# Altium footprint library New.PcbLib: 1 footprints
Each footprint in its own frame and in the unit in brackets; x right, y up, seen from the top. Pads: shape width x height; smd on the part's side, far side on the other; paste and mask are expansions set on the pad; w line width, h text height; cw(c..) or ccw(c..) is an arc to the next point about the centre after c.
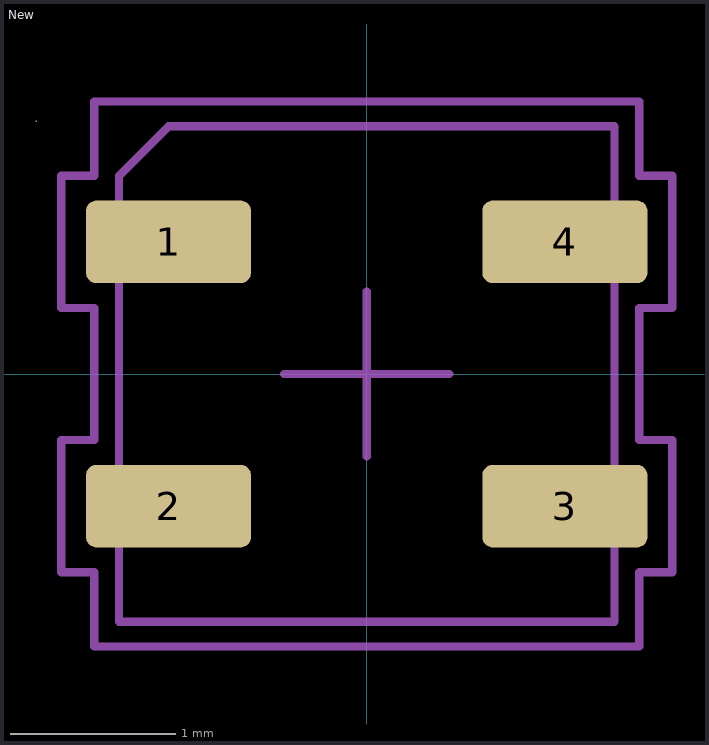
[diagram p0: the footprint, top view; thin cyan lines are the x and y axes]

## New [mm] "New Footprint Template"
pads (4):
  rrect25% 1x0.5 smd paste+0: 1(-1.2,0.8) 2(-1.2,-0.8) 3(1.2,-0.8) 4(1.2,0.8)
Top Overlay:
  text "o" at -2.003,1.525 h0.01
Top Component Outline:
  lines w0.05: -1.5,-1.5 -1.5,1.2 -1.2,1.5 1.5,1.5 1.5,-1.5 -1.5,-1.5
Top Courtyard:
  lines w0.05: -0.5,0 0,0 ; 0,-0.5 0,-0.4 0,0 ; 0,0.5 0,0 ; 0.5,0 0,0 ; -1.85,-1.2 -1.85,-0.4 -1.65,-0.4 -1.65,0.4 -1.85,0.4 -1.85,1.2 -1.65,1.2 -1.65,1.65 1.65,1.65 1.65,1.2 1.85,1.2 1.85,0.4 1.65,0.4 1.65,-0.4 1.85,-0.4 1.85,-1.2 1.65,-1.2 1.65,-1.65 -1.65,-1.65 -1.65,-1.2 -1.85,-1.2
3D body: height 0.7, standoff 0, extent -1.5,-1.5 1.5,1.5